# EAGLE library part 74*126 (library ICs_74HC_Series)
Quad bus BUFFER, 3-state
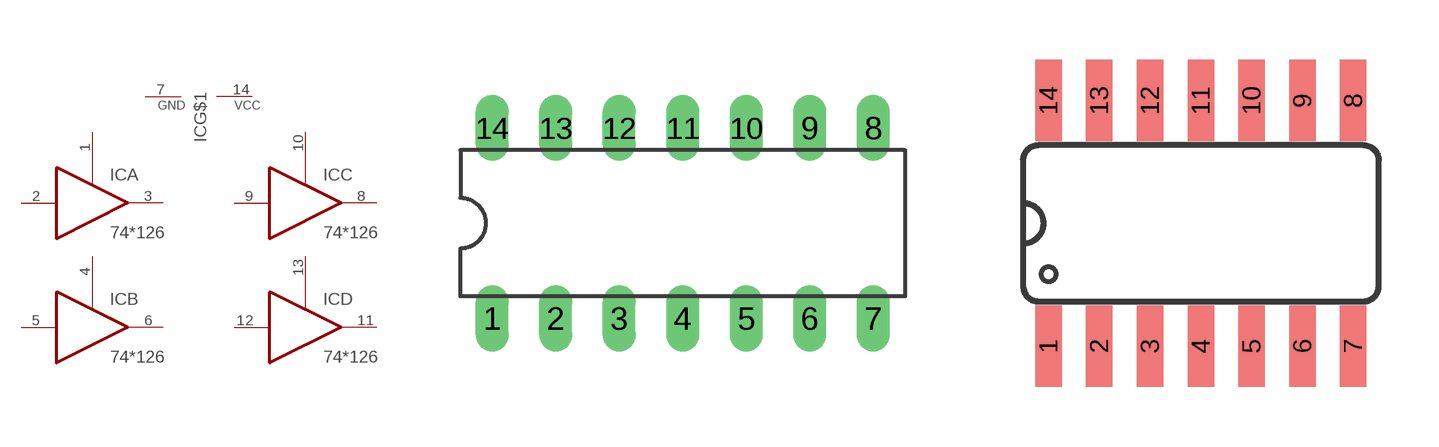
[diagram p0: symbol with the pads of 14-DIP; footprints 14-DIP, 14-SOIC]

Designator prefix IC; gates A=BUFFER B=BUFFER C=BUFFER D=BUFFER G$1=POWER

## 74HC126N  [14-DIP]
1  A:OE  in
2  A:I  in
3  A:O  out
4  B:OE  in
5  B:I  in
6  B:O  out
7  G$1:GND  pwr
8  C:O  out
9  C:I  in
10  C:OE  in
11  D:O  out
12  D:I  in
13  D:OE  in
14  G$1:VCC  pwr

## 74HC126D  [14-SOIC]
Pads as for 14-DIP

## 74HC126PW  [14-TSSOP]
Pads as for 14-DIP

## Footprint 14-DIP (pad centres in mm)
Dual In Line Package
drill 0.813 long: 1 0,0; 2 2.54,0; 3 5.08,0; 4 7.62,0; 5 10.16,0; 6 12.7,0; 7 15.24,0; 8 15.24,7.62; 9 12.7,7.62; 10 10.16,7.62; 11 7.62,7.62; 12 5.08,7.62; 13 2.54,7.62; 14 0,7.62

## Footprint 14-SOIC (pad centres in mm)
Small Outline package 150 mil
smd 0.66 x 2.032: 1 0,-0.025; 2 1.27,-0.025; 3 2.54,-0.025; 4 3.81,-0.025; 5 5.08,-0.025; 6 6.35,-0.025; 7 7.62,-0.025; 8 7.62,6.121; 9 6.35,6.121; 10 5.08,6.121; 11 3.81,6.121; 12 2.54,6.121; 13 1.27,6.121; 14 0,6.121

## Footprint 14-TSSOP (pad centres in mm)
smd 0.3 x 1.6: 1 -0.004,-0.006; 2 0.646,-0.006; 3 1.296,-0.006; 4 1.946,-0.006; 5 2.596,-0.006; 6 3.246,-0.006; 7 3.896,-0.006; 8 3.896,5.594; 9 3.246,5.594; 10 2.596,5.594; 11 1.946,5.594; 12 1.296,5.594; 13 0.646,5.594; 14 -0.004,5.594